# Altium integrated library HyTechDevices.Library.IntLib: 384 symbols (part 4 of 4)
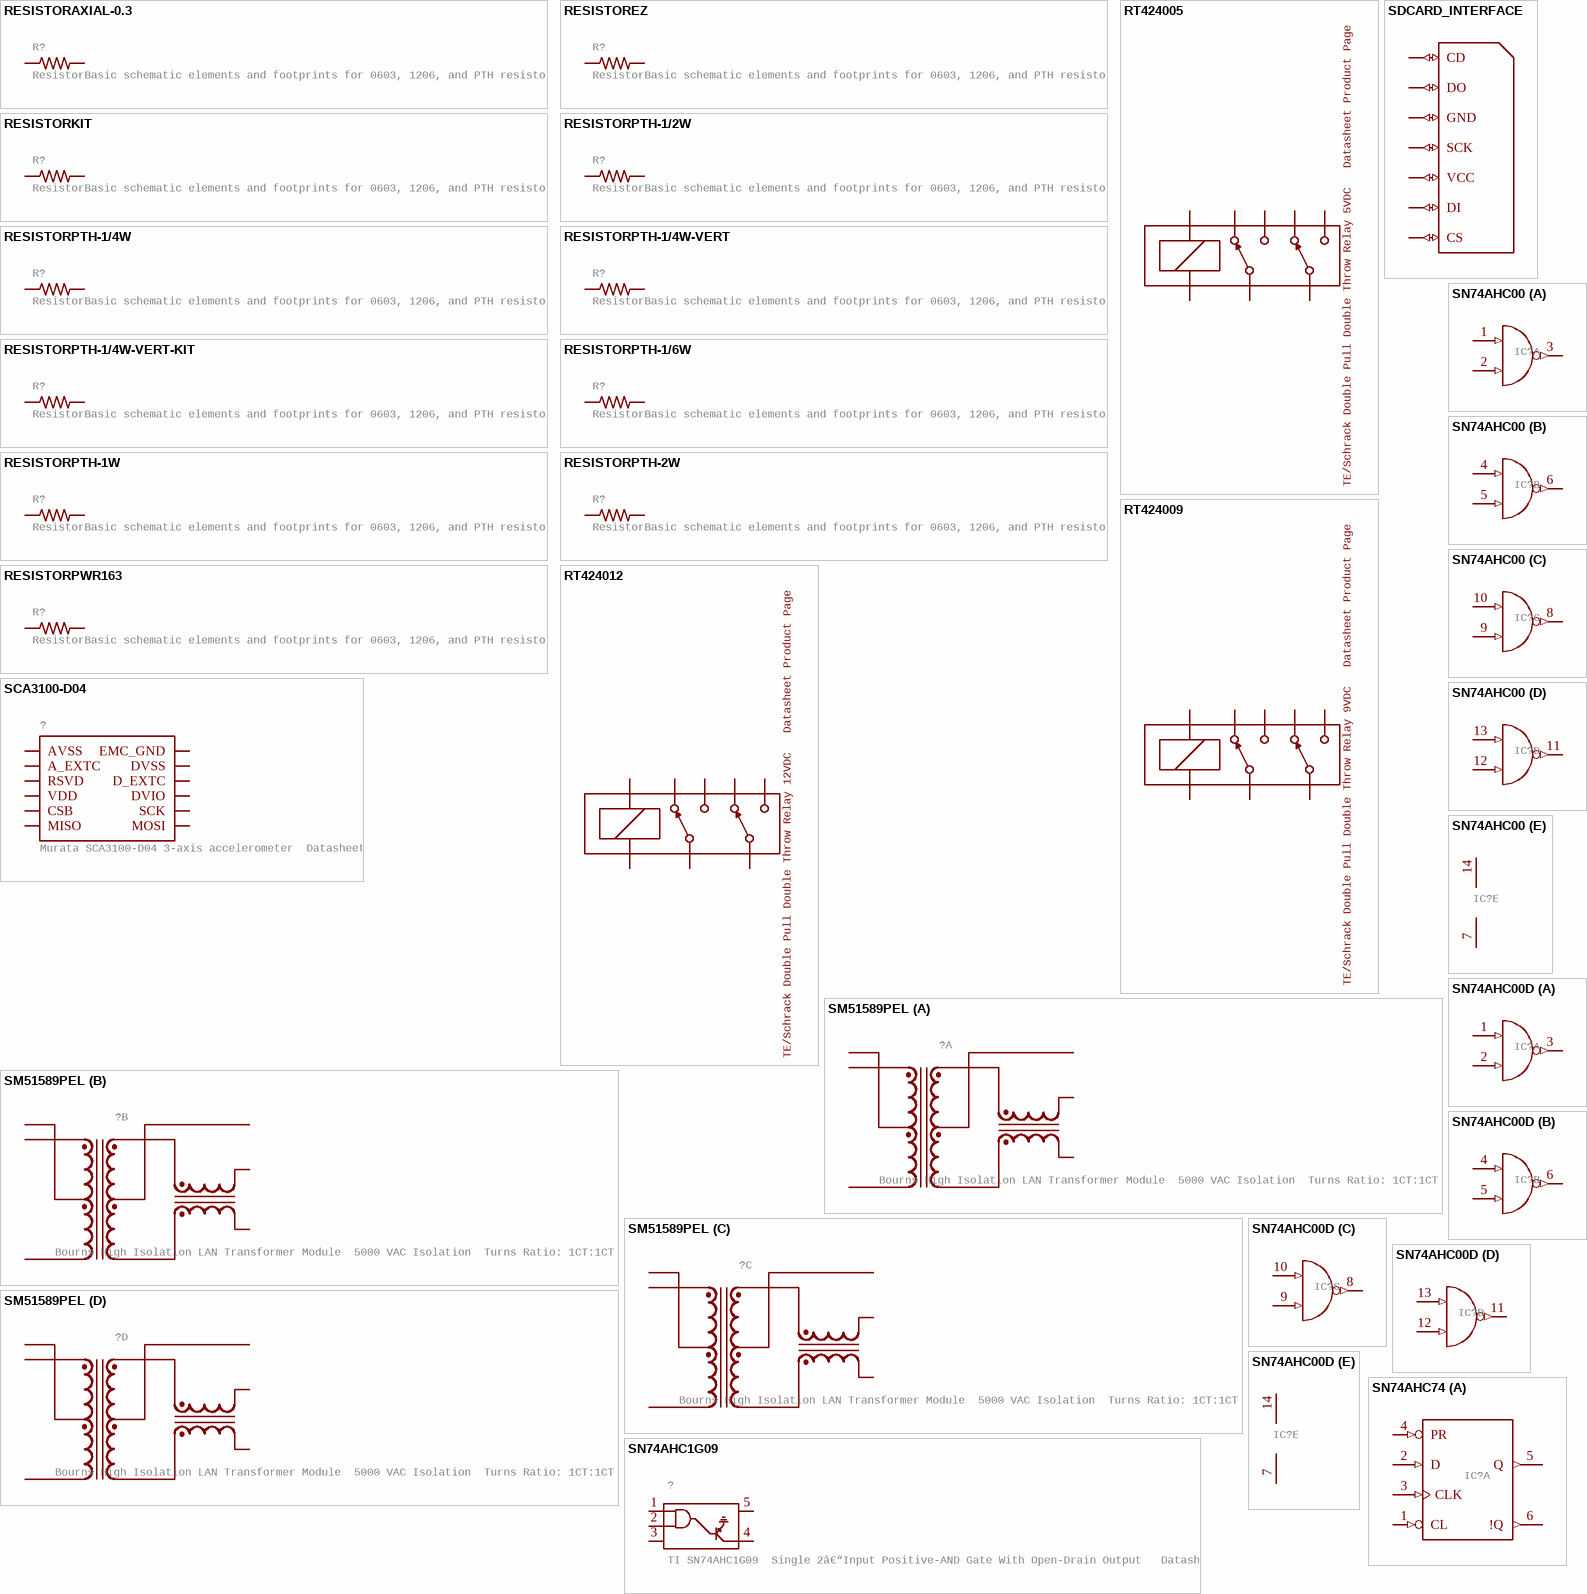
[diagram p24: symbols RESISTORAXIAL-0.3 to SN74AHC74]

## RESISTORPTH-2W
designator R?, comment ResistorBasic schematic elements and footprints for 0603, 1206, and PTH resistors.
GateName_1: G$1; DeviceName: PTH-2W; SymbolName_1: RESISTOR; LibraryName: HyTechDevices; DeviceSetName: RESISTOR; Package: AXIAL-0.8
footprint AXIAL-0.8
pins: P$1 1, P$2 2

## RESISTORPWR163
designator R?, comment ResistorBasic schematic elements and footprints for 0603, 1206, and PTH resistors.
GateName_1: G$1; DeviceName: PWR163; SymbolName_1: RESISTOR; LibraryName: HyTechDevices; DeviceSetName: RESISTOR; Package: PWR163
footprint PWR163
pins: 1, 2

## RT424005
designator ?, comment TE/Schrack Double Pull Double Throw Relay 5VDC   Datasheet Product Page
GateName_1: G$1; SymbolName_1: RELAY_DPDT; DeviceSetName: RT424005; LibraryName: HyTechDevices; Package: RELAY_DPDT
footprint RELAY_DPDT
pins: 2 (io), 3 (io), 4 (io), 5 (io), 6 (io), 7 (io), COIL+ (io), COIL- (io)

## RT424009
designator ?, comment TE/Schrack Double Pull Double Throw Relay 9VDC   Datasheet Product Page
GateName_1: G$1; SymbolName_1: RELAY_DPDT; DeviceSetName: RT424009; LibraryName: HyTechDevices; Package: RELAY_DPDT
footprint RELAY_DPDT
pins: 2 (io), 3 (io), 4 (io), 5 (io), 6 (io), 7 (io), COIL+ (io), COIL- (io)

## RT424012
designator ?, comment TE/Schrack Double Pull Double Throw Relay 12VDC   Datasheet Product Page
GateName_1: G$1; SymbolName_1: RELAY_DPDT; DeviceSetName: RT424012; LibraryName: HyTechDevices; Package: RELAY_DPDT
footprint RELAY_DPDT
pins: 2 (io), 3 (io), 4 (io), 5 (io), 6 (io), 7 (io), COIL+ (io), COIL- (io)

## SCA3100-D04
designator ?, comment Murata SCA3100-D04 3-axis accelerometer  Datasheet
GateName_1: G$1; SymbolName_1: SCA3100-D04; LibraryName: HyTechDevices; DeviceSetName: SCA3100-D04; Package: SCA3100-D04
footprint SCA3100-D04
pins: A_EXTC (io), AVSS (io), CSB (io), D_EXTC (io), DVIO (io), DVSS (io), EMC_GND (io), MISO (io), MOSI (io), RESERVED RSVD (io), SCK (io), VDD (io)

## SDCARD_INTERFACE
designator ?
GateName_1: G$1; SymbolName_1: SDCARD_INTERFACE; LibraryName: HyTechDevices; DeviceSetName: SDCARD_INTERFACE; Package: SDCARD_INTERFACE
footprint SDCARD_INTERFACE
pins: CD (io), CS (io), DI (io), DO (io), GND (io), SCK (io), VCC (io)

## SM51589PEL
designator ?, comment Bourns High Isolation LAN Transformer Module  5000 VAC Isolation  Turns Ratio: 1CT:1CT  Inductance: 350 uH  Leakage Inductance: 0.5 uH  Datasheet
GateName_1: G$1; GateName_2: G$2; GateName_3: G$3; GateName_4: G$4; DeviceSetName: SM51589PEL; SymbolName_1: TRANSFORMER; SymbolName_2: TRANSFORMER; SymbolName_3: TRANSFORMER; SymbolName_4: TRANSFORMER; LibraryName: HyTechDevices; Package: SM51589PEL
footprint SM51589PEL
part A pins: 1 MCT, 2 MX+, 3 MX-, 22 TD-, 23 TD+, 24 TCT
part B pins: 4 MCT, 5 MX+, 6 MX-, 19 TD-, 20 TD+, 21 TCT
part C pins: 7 MCT, 8 MX+, 9 MX-, 16 TD-, 17 TD+, 18 TCT
part D pins: 10 MCT, 11 MX+, 12 MX-, 13 TD-, 14 TD+, 15 TCT

## SN74AHC00
designator IC?, comment TI SN74AHC00 Quadruple 2-input NAND  (value not drawn)
GateName_1: A; SymbolName_1: NAND_2; GateName_2: B; GateName_3: C; GateName_4: D; GateName_5: P; SymbolName_5: PWRN; SymbolName_2: NAND_2; SymbolName_3: NAND_2; SymbolName_4: NAND_2; LibraryName: HyTechDevices; DeviceSetName: SN74AHC00; Package: DIL14
footprint DIL14
part A pins: 1 I0 (in), 2 I1 (in), 3 O (out)
part B pins: 4 I0 (in), 5 I1 (in), 6 O (out)
part C pins: 8 O (out), 9 I1 (in), 10 I0 (in)
part D pins: 11 O (out), 12 I1 (in), 13 I0 (in)
part E pins: 7 GND (power), 14 VCC (power)

## SN74AHC00D
designator IC?, comment TI SN74AHC00 Quadruple 2-input NAND  (value not drawn)
GateName_1: A; SymbolName_1: NAND_2; GateName_2: B; GateName_3: C; GateName_4: D; GateName_5: P; SymbolName_5: PWRN; SymbolName_2: NAND_2; SymbolName_3: NAND_2; SymbolName_4: NAND_2; DeviceName: D; LibraryName: HyTechDevices; DeviceSetName: SN74AHC00; Package: SOIC-14
footprint SOIC-14
part A pins: 1 I0 (in), 2 I1 (in), 3 O (out)
part B pins: 4 I0 (in), 5 I1 (in), 6 O (out)
part C pins: 8 O (out), 9 I1 (in), 10 I0 (in)
part D pins: 11 O (out), 12 I1 (in), 13 I0 (in)
part E pins: 7 GND (power), 14 VCC (power)

## SN74AHC1G09
designator ?, comment TI SN74AHC1G09  Single 2â€“Input Positive-AND Gate With Open-Drain Output   Datasheet
GateName_1: G$1; SymbolName_1: SN74AHC1G09; LibraryName: HyTechDevices; DeviceSetName: SN74AHC1G09; Package: SOT-23-5
footprint SOT-23-5
pins: 1, 2, 3, 4, 5

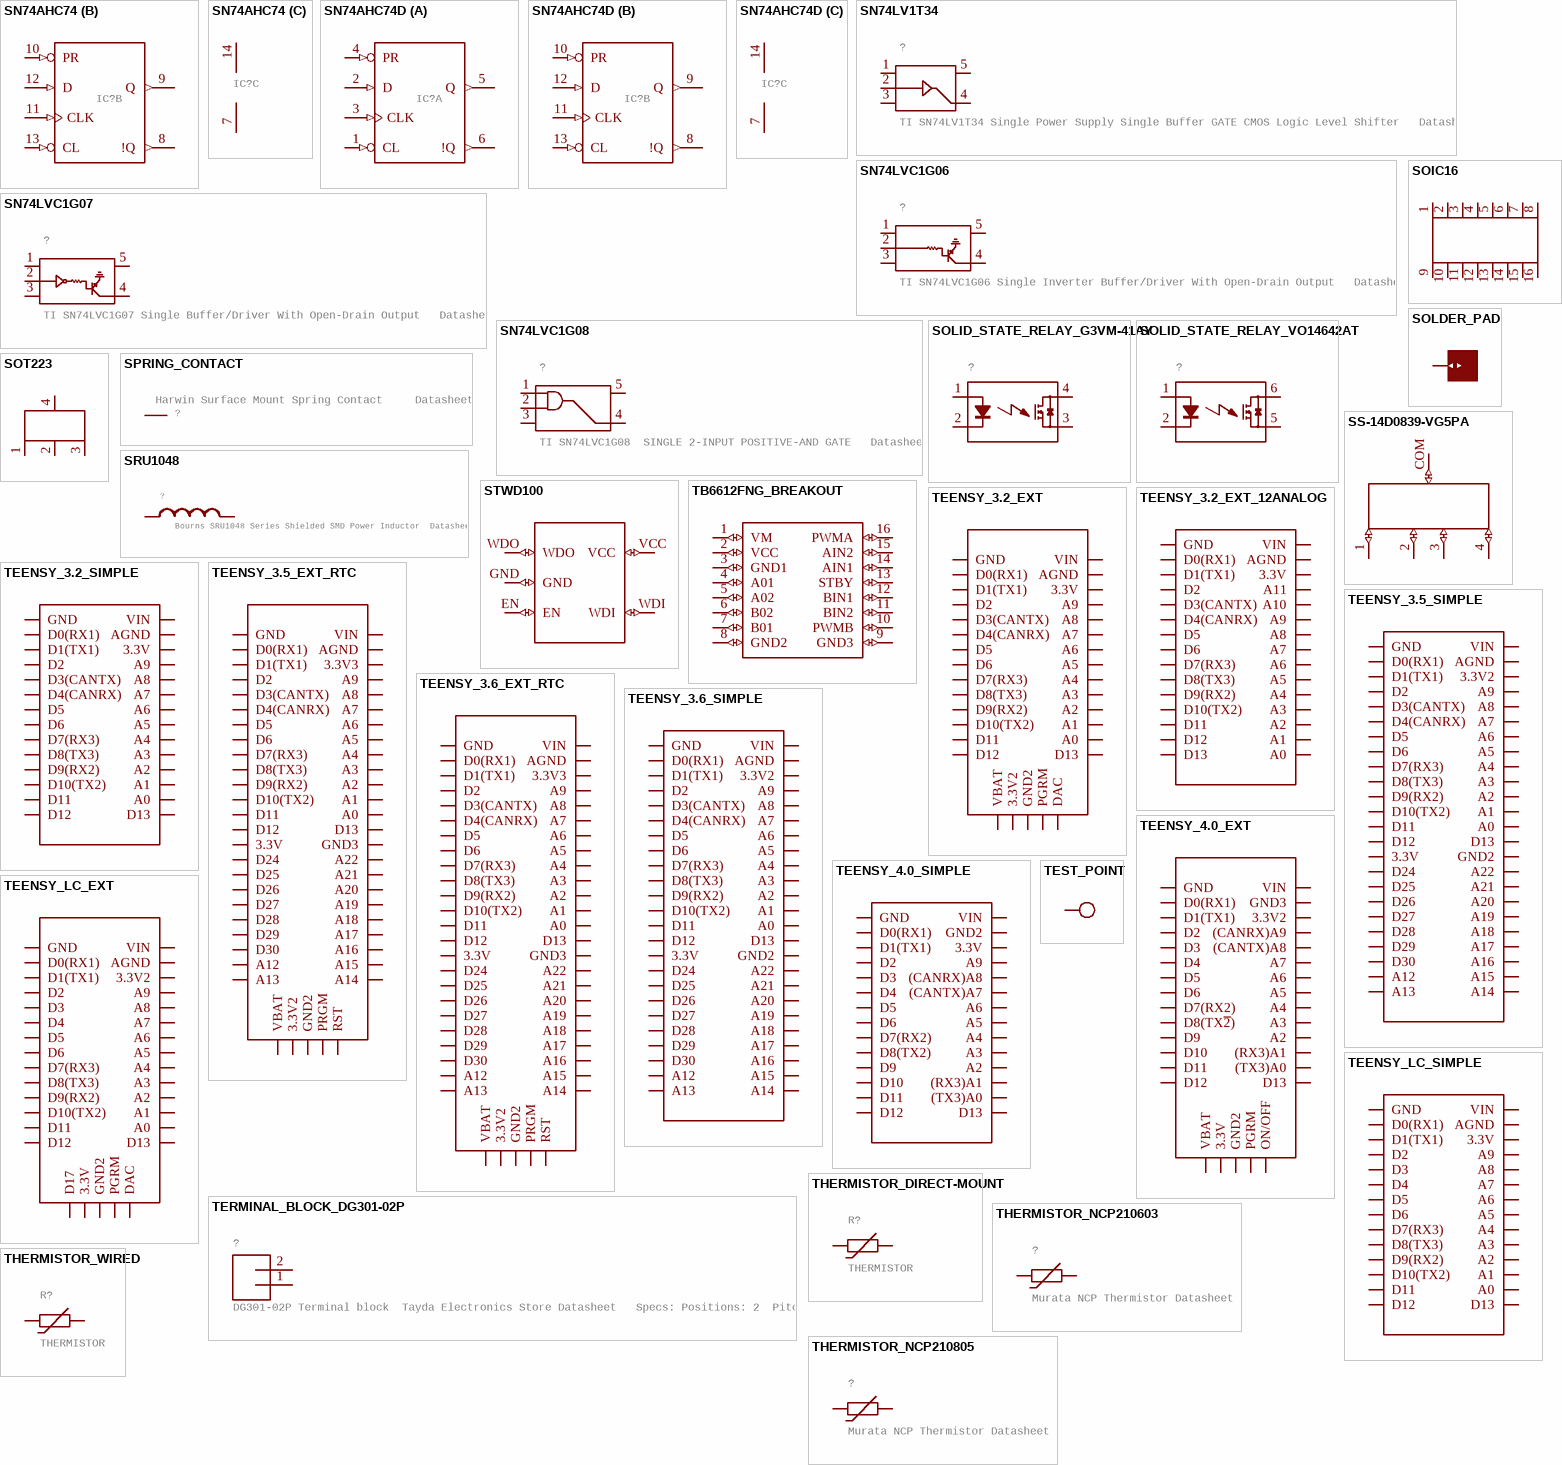
[diagram p20: symbols SN74AHC74 to THERMISTOR_WIRED]

## SN74AHC74
designator IC?, comment TI SN74AHC74 Dual positive edge triggered D-type FLIP FLOP  (value not drawn)
GateName_1: A; SymbolName_1: D_FLIP-FLOP; GateName_2: B; GateName_3: P; SymbolName_3: PWRN; SymbolName_2: D_FLIP-FLOP; LibraryName: HyTechDevices; DeviceSetName: SN74AHC74; Package: DIL14
footprint DIL14
part A pins: 1 CL (in), 2 D (in), 3 CLK (in), 4 PR (in), 5 Q (out), 6 !Q (out)
part B pins: 8 !Q (out), 9 Q (out), 10 PR (in), 11 CLK (in), 12 D (in), 13 CL (in)
part C pins: 7 GND (power), 14 VCC (power)

## SN74AHC74D
designator IC?, comment TI SN74AHC74 Dual positive edge triggered D-type FLIP FLOP  (value not drawn)
GateName_1: A; SymbolName_1: D_FLIP-FLOP; GateName_2: B; GateName_3: P; SymbolName_3: PWRN; DeviceName: D; SymbolName_2: D_FLIP-FLOP; LibraryName: HyTechDevices; DeviceSetName: SN74AHC74; Package: SOIC-14
footprint SOIC-14
part A pins: 1 CL (in), 2 D (in), 3 CLK (in), 4 PR (in), 5 Q (out), 6 !Q (out)
part B pins: 8 !Q (out), 9 Q (out), 10 PR (in), 11 CLK (in), 12 D (in), 13 CL (in)
part C pins: 7 GND (power), 14 VCC (power)

## SN74LV1T34
designator ?, comment TI SN74LV1T34 Single Power Supply Single Buffer GATE CMOS Logic Level Shifter   Datasheet
GateName_1: G$1; SymbolName_1: SN74LV1T34; LibraryName: HyTechDevices; DeviceSetName: SN74LV1T34; Package: SOT-23-5
footprint SOT-23-5
pins: 1, 2, 3, 4, 5

## SN74LVC1G06
designator ?, comment TI SN74LVC1G06 Single Inverter Buffer/Driver With Open-Drain Output   Datasheet
GateName_1: G$1; SymbolName_1: SN74LVC1G06; LibraryName: HyTechDevices; DeviceSetName: SN74LVC1G06; Package: SOT-23-5
footprint SOT-23-5
pins: 1, 2, 3, 4, 5

## SN74LVC1G07
designator ?, comment TI SN74LVC1G07 Single Buffer/Driver With Open-Drain Output   Datasheet
GateName_1: G$1; SymbolName_1: SN74LVC1G07; LibraryName: HyTechDevices; DeviceSetName: SN74LVC1G07; Package: SOT-23-5
footprint SOT-23-5
pins: 1, 2, 3, 4, 5

## SN74LVC1G08
designator ?, comment TI SN74LVC1G08  SINGLE 2-INPUT POSITIVE-AND GATE   Datasheet
GateName_1: G$1; SymbolName_1: SN74LVC1G08; LibraryName: HyTechDevices; DeviceSetName: SN74LVC1G08; Package: SOT-23-5
footprint SOT-23-5
pins: 1, 2, 3, 4, 5

## SOIC16
designator ?
GateName_1: G$1; SymbolName_1: SOIC16; LibraryName: HyTechDevices; DeviceSetName: SOIC16; Package: SOIC-16
footprint SOIC-16
pins: 1 P$1 (io), 2 P$2 (io), 3 P$3 (io), 4 P$4 (io), 5 P$5 (io), 6 P$6 (io), 7 P$7 (io), 8 P$8 (io), 9 P$9 (io), 10 P$10 (io), 11 P$11 (io), 12 P$12 (io), 13 P$13 (io), 14 P$14 (io), 15 P$15 (io), 16 P$16 (io)

## SOLDER_PAD
designator ?, comment Solder pad used to attach wires directly to PCB  (value not drawn)
GateName_1: G$1; SymbolName_1: SOLDER_PAD; LibraryName: HyTechDevices; DeviceSetName: SOLDER_PAD; Package: SOLDER_PAD_XSMALL
footprint SOLDER_PAD_XSMALL
pins: P$1 (io)

## SOLID_STATE_RELAY_G3VM-41AY
designator ?
GateName_1: G$1; SymbolName_1: PHOTOMOS-DC; DeviceName: _G3VM-41AY; DeviceSetName: SOLID_STATE_RELAY; LibraryName: HyTechDevices; Package: DIL04
footprint DIL04
pins: 1 LED+, 2 LED-, 3 IO2, 4 IO1

## SOLID_STATE_RELAY_VO14642AT
designator ?
GateName_1: G$1; SymbolName_1: PHOTOMOS-DC; DeviceName: _VO14642AT; DeviceSetName: SOLID_STATE_RELAY; LibraryName: HyTechDevices; Package: DIL06
footprint DIL06
pins: 1 LED+, 2 LED-, 5 IO2, 6 IO1

## SOT223
designator ?
GateName_1: G$1; SymbolName_1: SOT223; LibraryName: HyTechDevices; DeviceSetName: SOT223; Package: SOT223
footprint SOT223
pins: 1 (io), 2 (io), 3 (io), 4 (io)

## SPRING_CONTACT
designator ?, comment Harwin Surface Mount Spring Contact     Datasheet
GateName_1: G$1; SymbolName_1: MV; DeviceSetName: SPRING_CONTACT; LibraryName: HyTechDevices; Package: S1791-42R
footprint S1791-42R
pins: P$1 S

## SRU1048
designator ?, comment Bourns SRU1048 Series Shielded SMD Power Inductor  Datasheet
GateName_1: G$1; SymbolName_1: INDUCTOR; LibraryName: HyTechDevices; DeviceSetName: SRU1048; Package: SRU1048
footprint SRU1048
pins: 1 P$1 (io), 2 P$2 (io)

## SS-14D0839-VG5PA
designator ?
GateName_1: G$1; SymbolName_1: SS-14D0839-VG5PA; LibraryName: HyTechDevices; DeviceSetName: SS-14D0839-VG5PA; Package: SS-14D0839-VG5PA
footprint SS-14D0839-VG5PA
pins: 1 (io), 2 (io), 3 (io), 4 (io), COM (io)

## STWD100
designator ?, comment STWD100 Watchdog timer  (value not drawn)
GateName_1: G$1; SymbolName_1: STWD100; LibraryName: HyTechDevices; DeviceSetName: STWD100; Package: SOT23-5
footprint SOT23-5
pins: EN (io), GND (io), VCC (io), WDI (io), WDO (io)

## TB6612FNG_BREAKOUT
designator ?
GateName_1: G$1; SymbolName_1: TB6612FNG_BREAKOUT; LibraryName: HyTechDevices; DeviceSetName: TB6612FNG_BREAKOUT; Package: TB6612FNG_BREAKOUT
footprint TB6612FNG_BREAKOUT
pins: 1 VM (io), 2 VCC (io), 3 GND1 (io), 4 A01 (io), 5 A02 (io), 6 B02 (io), 7 B01 (io), 8 GND2 (io), 9 GND3 (io), 10 PWMB (io), 11 BIN2 (io), 12 BIN1 (io), 13 STBY (io), 14 AIN1 (io), 15 AIN2 (io), 16 PWMA (io)

## TEENSY_3.2_EXT
designator ?, comment Extended version of the Teensy 3.2 board that only uses the 2 main rows of pins, plus the perpendicular row with VBat.  (value not drawn)
GateName_1: G$1; SymbolName_1: TEENSY_3.2_EXT; LibraryName: HyTechDevices; DeviceSetName: TEENSY_3.2_EXT; Package: TEENSY_3.2_EXT
footprint TEENSY_3.2_EXT
pins: 3.3V (io), 3.3V2 (io), A0 (io), A1 (io), A2 (io), A3 (io), A4 (io), A5 (io), A6 (io), A7 (io), A8 (io), A9 (io), AGND (io), D0(RX1) (io), D1(TX1) (io), D2 (io), D3(CANTX) (io), D4(CANRX) (io), D5 (io), D6 (io), D7(RX3) (io), D8(TX3) (io), D9(RX2) (io), D10(TX2) (io), D11 (io), D12 (io), D13 (io), DAC (io), GND (io), GND2 (io), PGRM (io), VBAT (io), VIN (io)

## TEENSY_3.2_EXT_12ANALOG
designator ?, comment Simple version of the Teensy 3.2 board that only uses the 2 main rows of pins, with 12 Analog pins and no perpendicular row with VBat or inner pins.  (value not drawn)
GateName_1: G$1; SymbolName_1: TEENSY_3.2_EXT_12ANALOG; LibraryName: HyTechDevices; DeviceSetName: TEENSY_3.2_EXT_12ANALOG; Package: TEENSY_3.2_EXT_12ANALOG
footprint TEENSY_3.2_EXT_12ANALOG
pins: 3.3V (io), A0 (io), A1 (io), A2 (io), A3 (io), A4 (io), A5 (io), A6 (io), A7 (io), A8 (io), A9 (io), A10 (io), A11 (io), AGND (io), D0(RX1) (io), D1(TX1) (io), D2 (io), D3(CANTX) (io), D4(CANRX) (io), D5 (io), D6 (io), D7(RX3) (io), D8(TX3) (io), D9(RX2) (io), D10(TX2) (io), D11 (io), D12 (io), D13 (io), GND (io), VIN (io)

## TEENSY_3.2_SIMPLE
designator ?, comment Simple version of the Teensy 3.2 board that only uses the 2 main rows of pins, with no perpendicular row with VBat or inner pins.  (value not drawn)
GateName_1: G$1; SymbolName_1: TEENSY_3.2_SIMPLE; LibraryName: HyTechDevices; DeviceSetName: TEENSY_3.2_SIMPLE; Package: TEENSY_3.2_SIMPLE
footprint TEENSY_3.2_SIMPLE
pins: 3.3V (io), A0 (io), A1 (io), A2 (io), A3 (io), A4 (io), A5 (io), A6 (io), A7 (io), A8 (io), A9 (io), AGND (io), D0(RX1) (io), D1(TX1) (io), D2 (io), D3(CANTX) (io), D4(CANRX) (io), D5 (io), D6 (io), D7(RX3) (io), D8(TX3) (io), D9(RX2) (io), D10(TX2) (io), D11 (io), D12 (io), D13 (io), GND (io), VIN (io)

## TEENSY_3.5_EXT_RTC
designator ?, comment Extended version of the Teensy 3.5 board that only uses the 2 main rows of pins, plus the perpendicular row with VBat.  (value not drawn)
GateName_1: G$1; SymbolName_1: TEENSY_3.5_EXT_RTC; LibraryName: HyTechDevices; DeviceSetName: TEENSY_3.5_EXT_RTC; Package: TEENSY_3.5_EXT_RTC
footprint TEENSY_3.5_EXT_RTC
pins: 3.3V (io), 3.3V2 (io), 3.3V3 (io), A0 (io), A1 (io), A2 (io), A3 (io), A4 (io), A5 (io), A6 (io), A7 (io), A8 (io), A9 (io), A12 (io), A13 (io), A14 (io), A15 (io), A16 (io), A17 (io), A18 (io), A19 (io), A20 (io), A21 (io), A22 (io), AGND (io), D0(RX1) (io), D1(TX1) (io), D2 (io), D3(CANTX) (io), D4(CANRX) (io), D5 (io), D6 (io), D7(RX3) (io), D8(TX3) (io), D9(RX2) (io), D10(TX2) (io), D11 (io), D12 (io), D13 (io), D24 (io), D25 (io), D26 (io), D27 (io), D28 (io), D29 (io), D30 (io), GND (io), GND2 (io), GND3 (io), PRGM (io), RST (io), VBAT (io), VIN (io)

## TEENSY_3.5_SIMPLE
designator ?, comment Simple version of the Teensy 3.5 board that only uses the 2 main rows of pins, with no perpendicular row with VBat or inner pins.  (value not drawn)
GateName_1: G$1; SymbolName_1: TEENSY_3.5_SIMPLE; LibraryName: HyTechDevices; DeviceSetName: TEENSY_3.5_SIMPLE; Package: TEENSY_3.5_SIMPLE
footprint TEENSY_3.5_SIMPLE
pins: 3.3V (io), 3.3V2 (io), A0 (io), A1 (io), A2 (io), A3 (io), A4 (io), A5 (io), A6 (io), A7 (io), A8 (io), A9 (io), A12 (io), A13 (io), A14 (io), A15 (io), A16 (io), A17 (io), A18 (io), A19 (io), A20 (io), A21 (io), A22 (io), AGND (io), D0(RX1) (io), D1(TX1) (io), D2 (io), D3(CANTX) (io), D4(CANRX) (io), D5 (io), D6 (io), D7(RX3) (io), D8(TX3) (io), D9(RX2) (io), D10(TX2) (io), D11 (io), D12 (io), D13 (io), D24 (io), D25 (io), D26 (io), D27 (io), D28 (io), D29 (io), D30 (io), GND (io), GND2 (io), VIN (io)

## TEENSY_3.6_EXT_RTC
designator ?, comment Extended version of the Teensy 3.6 board that only uses the 2 main rows of pins, plus the perpendicular row with VBat.  (value not drawn)
GateName_1: G$1; SymbolName_1: TEENSY_3.6_EXT_RTC; LibraryName: HyTechDevices; DeviceSetName: TEENSY_3.6_EXT_RTC; Package: TEENSY_3.6_EXT_RTC
footprint TEENSY_3.6_EXT_RTC
pins: 3.3V (io), 3.3V2 (io), 3.3V3 (io), A0 (io), A1 (io), A2 (io), A3 (io), A4 (io), A5 (io), A6 (io), A7 (io), A8 (io), A9 (io), A12 (io), A13 (io), A14 (io), A15 (io), A16 (io), A17 (io), A18 (io), A19 (io), A20 (io), A21 (io), A22 (io), AGND (io), D0(RX1) (io), D1(TX1) (io), D2 (io), D3(CANTX) (io), D4(CANRX) (io), D5 (io), D6 (io), D7(RX3) (io), D8(TX3) (io), D9(RX2) (io), D10(TX2) (io), D11 (io), D12 (io), D13 (io), D24 (io), D25 (io), D26 (io), D27 (io), D28 (io), D29 (io), D30 (io), GND (io), GND2 (io), GND3 (io), PRGM (io), RST (io), VBAT (io), VIN (io)

## TEENSY_3.6_SIMPLE
designator ?, comment Simple version of the Teensy 3.6 board that only uses the 2 main rows of pins, with no perpendicular row with VBat or inner pins.  (value not drawn)
GateName_1: G$1; SymbolName_1: TEENSY_3.6_SIMPLE; LibraryName: HyTechDevices; DeviceSetName: TEENSY_3.6_SIMPLE; Package: TEENSY_3.6_SIMPLE
footprint TEENSY_3.6_SIMPLE
pins: 3.3V (io), 3.3V2 (io), A0 (io), A1 (io), A2 (io), A3 (io), A4 (io), A5 (io), A6 (io), A7 (io), A8 (io), A9 (io), A12 (io), A13 (io), A14 (io), A15 (io), A16 (io), A17 (io), A18 (io), A19 (io), A20 (io), A21 (io), A22 (io), AGND (io), D0(RX1) (io), D1(TX1) (io), D2 (io), D3(CANTX) (io), D4(CANRX) (io), D5 (io), D6 (io), D7(RX3) (io), D8(TX3) (io), D9(RX2) (io), D10(TX2) (io), D11 (io), D12 (io), D13 (io), D24 (io), D25 (io), D26 (io), D27 (io), D28 (io), D29 (io), D30 (io), GND (io), GND2 (io), VIN (io)

## TEENSY_4.0_EXT
designator ?, comment Extended version of the Teensy 4.0 board that only uses the 2 main rows of pins, plus the perpendicular row with VBat.  (value not drawn)
GateName_1: G$1; SymbolName_1: TEENSY_4.0_EXT; LibraryName: HyTechDevices; DeviceSetName: TEENSY_4.0_EXT; Package: TEENSY_4.0_EXT
footprint TEENSY_4.0_EXT
pins: 3.3V (io), 3.3V2 (io), (CANRX)A9 (io), (CANTX)A8 (io), (RX3)A1 (io), (TX3)A0 (io), A2 (io), A3 (io), A4 (io), A5 (io), A6 (io), A7 (io), D0(RX1) (io), D1(TX1) (io), D2 (io), D3 (io), D4 (io), D5 (io), D6 (io), D7(RX2) (io), D8(TX2) D8(TX~{2}) (io), D9 (io), D10 (io), D11 (io), D12 (io), D13 (io), GND (io), GND2 (io), GND3 (io), ON/OFF (io), PGRM (io), VBAT (io), VIN (io)

## TEENSY_4.0_SIMPLE
designator ?, comment Simple version of the Teensy 4.0 board that only uses the 2 main rows of pins, with no perpendicular row with VBat.  (value not drawn)
GateName_1: G$1; SymbolName_1: TEENSY_4.0_SIMPLE; LibraryName: HyTechDevices; DeviceSetName: TEENSY_4.0_SIMPLE; Package: TEENSY_4.0_SIMPLE
footprint TEENSY_4.0_SIMPLE
pins: 3.3V (io), (CANRX)A8 (io), (CANTX)A7 (io), (RX3)A1 (io), (TX3)A0 (io), A2 (io), A3 (io), A4 (io), A5 (io), A6 (io), A9 (io), D0(RX1) (io), D1(TX1) (io), D2 (io), D3 (io), D4 (io), D5 (io), D6 (io), D7(RX2) (io), D8(TX2) (io), D9 (io), D10 (io), D11 (io), D12 (io), D13 (io), GND (io), GND2 (io), VIN (io)

## TEENSY_LC_EXT
designator ?, comment Extended version of the Teensy LC board that only uses the 2 main rows of pins, plus the perpendicular row with VBat.  (value not drawn)
GateName_1: G$1; SymbolName_1: TEENSY_LC_EXT; LibraryName: HyTechDevices; DeviceSetName: TEENSY_LC_EXT; Package: TEENSY_LC_EXT
footprint TEENSY_LC_EXT
pins: 3.3V (io), 3.3V2 (io), A0 (io), A1 (io), A2 (io), A3 (io), A4 (io), A5 (io), A6 (io), A7 (io), A8 (io), A9 (io), AGND (io), D0(RX1) (io), D1(TX1) (io), D2 (io), D3 (io), D4 (io), D5 (io), D6 (io), D7(RX3) (io), D8(TX3) (io), D9(RX2) (io), D10(TX2) (io), D11 (io), D12 (io), D13 (io), D17 (io), DAC (io), GND (io), GND2 (io), PGRM (io), VIN (io)

## TEENSY_LC_SIMPLE
designator ?, comment Simple version of the Teensy LC board that only uses the 2 main rows of pins, with no perpendicular row with VBat or inner pins.  (value not drawn)
GateName_1: G$1; SymbolName_1: TEENSY_LC_SIMPLE; LibraryName: HyTechDevices; DeviceSetName: TEENSY_LC_SIMPLE; Package: TEENSY_LC_SIMPLE
footprint TEENSY_LC_SIMPLE
pins: 3.3V (io), A0 (io), A1 (io), A2 (io), A3 (io), A4 (io), A5 (io), A6 (io), A7 (io), A8 (io), A9 (io), AGND (io), D0(RX1) (io), D1(TX1) (io), D2 (io), D3 (io), D4 (io), D5 (io), D6 (io), D7(RX3) (io), D8(TX3) (io), D9(RX2) (io), D10(TX2) (io), D11 (io), D12 (io), D13 (io), GND (io), VIN (io)

## TERMINAL_BLOCK_DG301-02P
designator ?, comment DG301-02P Terminal block  Tayda Electronics Store Datasheet   Specs: Positions: 2  Pitch: 5.00mm  Wire: 12-24 AWG  Max Current: 15A  Max Voltage: 300V
GateName_1: G$1; SymbolName_1: M02; DeviceSetName: TERMINAL_BLOCK_DG301-02P; LibraryName: HyTechDevices; Package: DG301-02P
footprint DG301-02P
pins: 1, 2

## TEST_POINT
designator ?, comment Keystone Electronics Test Point 5005  (value not drawn)
GateName_1: G$1; SymbolName_1: TEST_POINT; LibraryName: HyTechDevices; DeviceSetName: TEST_POINT; Package: TEST_POINT
footprint TEST_POINT
pins: P$1 (io)

## THERMISTOR_DIRECT-MOUNT
designator R?, comment THERMISTOR
GateName_1: G$1; DeviceName: _DIRECT-MOUNT; SymbolName_1: THERMISTOR; LibraryName: HyTechDevices; DeviceSetName: THERMISTOR; Package: DO-35
footprint DO-35
pins: 1, 2

## THERMISTOR_NCP210603
designator ?, comment Murata NCP Thermistor Datasheet
GateName_1: G$1; DeviceName: 0603; DeviceSetName: THERMISTOR_NCP21; SymbolName_1: THERMISTOR; LibraryName: HyTechDevices; Package: 0603
footprint 0603
pins: 1, 2

## THERMISTOR_NCP210805
designator ?, comment Murata NCP Thermistor Datasheet
GateName_1: G$1; DeviceName: 0805; DeviceSetName: THERMISTOR_NCP21; SymbolName_1: THERMISTOR; LibraryName: HyTechDevices; Package: 0805
footprint 0805
pins: 1, 2

## THERMISTOR_WIRED
designator R?, comment THERMISTOR
GateName_1: G$1; DeviceName: _WIRED; SymbolName_1: THERMISTOR; LibraryName: HyTechDevices; DeviceSetName: THERMISTOR; Package: 1X02
footprint 1X02
pins: 1, 2

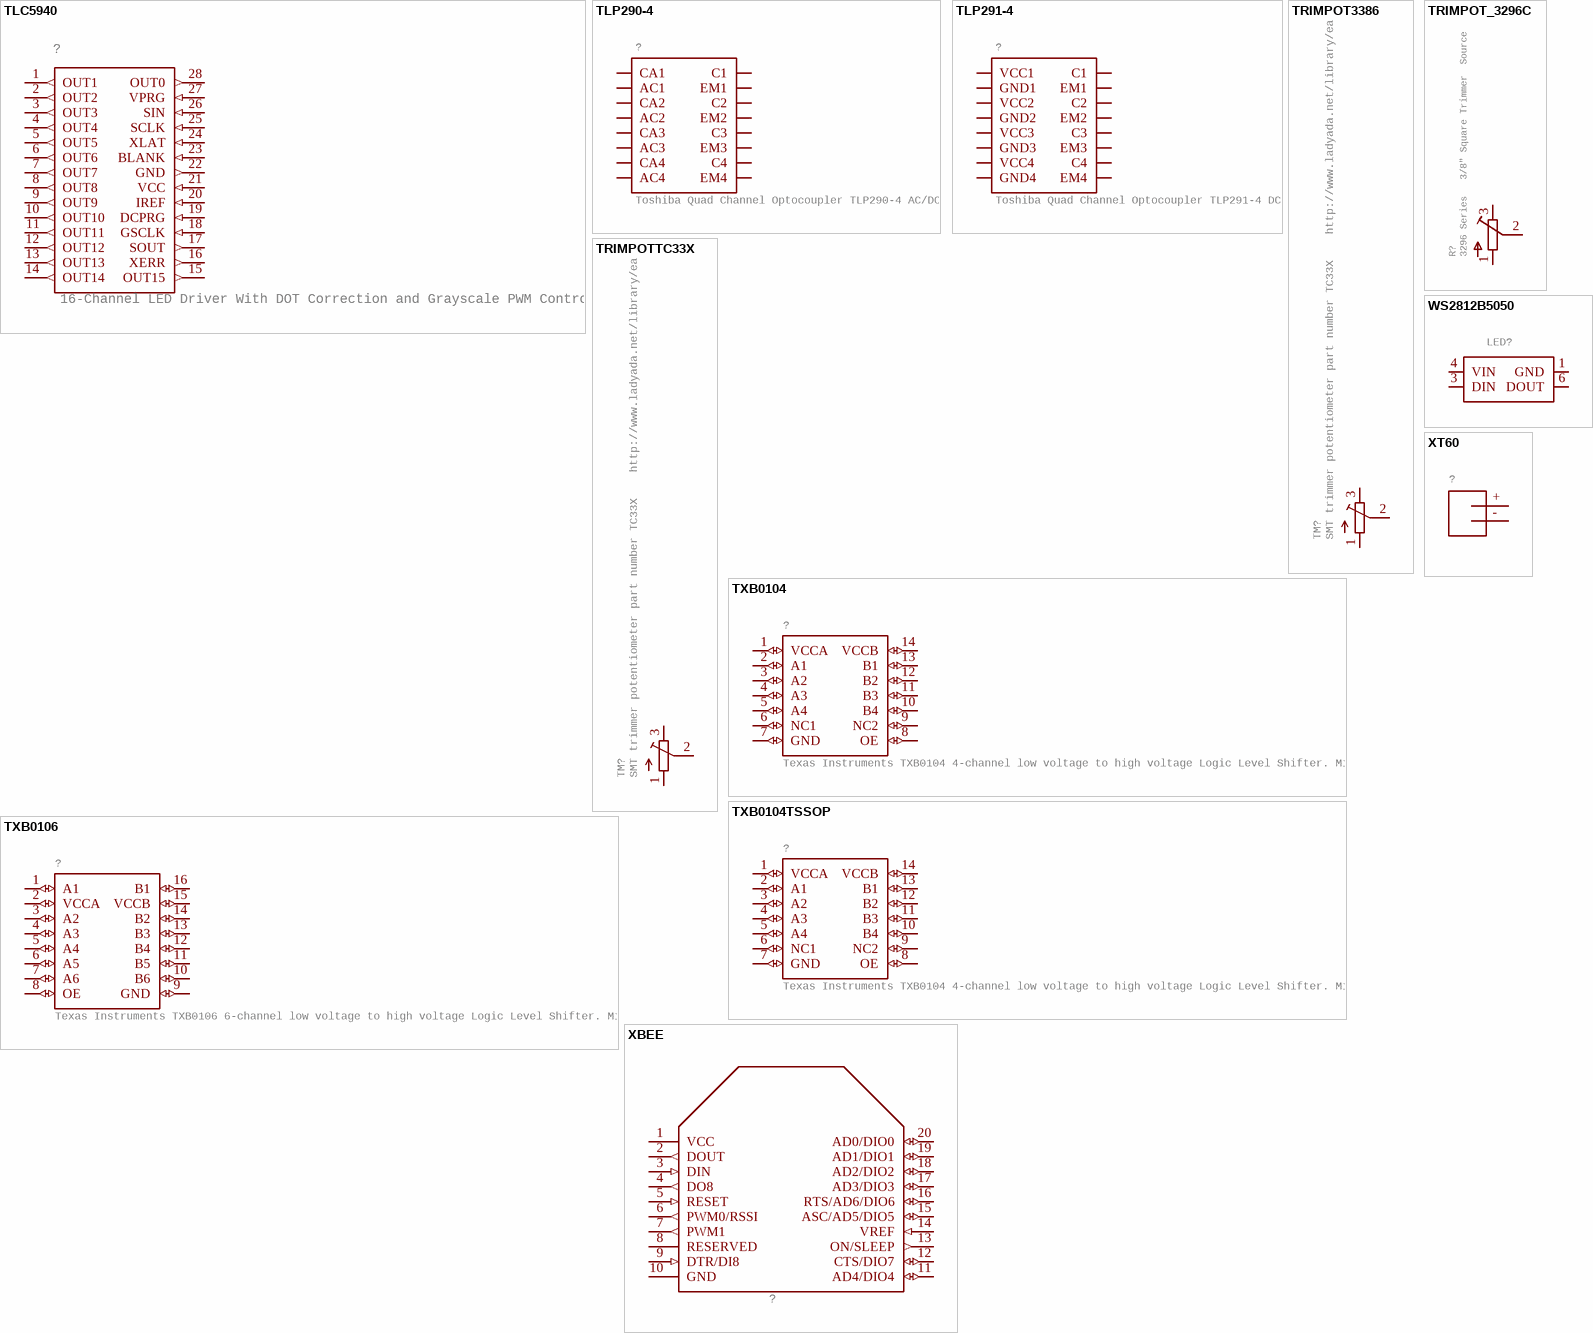
[diagram p21: symbols TLC5940 to XT60]

## TLC5940
designator ?, comment 16-Channel LED Driver With DOT Correction and Grayscale PWM Control
GateName_1: G$1; SymbolName_1: TLC5940; LibraryName: HyTechDevices; DeviceSetName: TLC5940; Package: DIL28-3
footprint DIL28-3
pins: 1 OUT1 (out), 2 OUT2 (out), 3 OUT3 (out), 4 OUT4 (out), 5 OUT5 (out), 6 OUT6 (out), 7 OUT7 (out), 8 OUT8 (out), 9 OUT9 (out), 10 OUT10 (out), 11 OUT11 (out), 12 OUT12 (out), 13 OUT13 (out), 14 OUT14 (out), 15 OUT15 (out), 16 XERR (out), 17 SOUT (out), 18 GSCLK (in), 19 DCPRG (in), 20 IREF (in), 21 VCC (in), 22 GND (out), 23 BLANK (in), 24 XLAT (in), 25 SCLK (in), 26 SIN (in), 27 VPRG (in), 28 OUT0 (out)

## TLP290-4
designator ?, comment Toshiba Quad Channel Optocoupler TLP290-4 AC/DC
GateName_1: G$1; SymbolName_1: TLP290-4; LibraryName: HyTechDevices; DeviceSetName: TLP290-4; Package: 11-11F1
footprint 11-11F1
pins: 1 CA1, 2 AC1, 3 CA2, 4 AC2, 5 CA3, 6 AC3, 7 CA4, 8 AC4, 9 EM4, 10 C4, 11 EM3, 12 C3, 13 EM2, 14 C2, 15 EM1, 16 C1

## TLP291-4
designator ?, comment Toshiba Quad Channel Optocoupler TLP291-4 DC
GateName_1: G$1; SymbolName_1: TLP291-4; LibraryName: HyTechDevices; DeviceSetName: TLP291-4; Package: 11-11F1
footprint 11-11F1
pins: 1 VCC1, 2 GND1, 3 VCC2, 4 GND2, 5 VCC3, 6 GND3, 7 VCC4, 8 GND4, 9 EM4, 10 C4, 11 EM3, 12 C3, 13 EM2, 14 C2, 15 EM1, 16 C1

## TRIMPOT3386
designator TM?, comment SMT trimmer potentiometer part number TC33X    http://www.ladyada.net/library/eagle
GateName_1: G$1; SymbolName_1: TRIMPOT; DeviceName: 3386; LibraryName: HyTechDevices; DeviceSetName: TRIMPOT; Package: TRIM-3386
footprint TRIM-3386
pins: 1 A, 2 S, 3 E

## TRIMPOT_3296C
designator R?, comment 3296 Series   3/8" Square Trimmer  Source
GateName_1: G$1; SymbolName_1: TPOT; DeviceName: C; DeviceSetName: TRIMPOT_3296; LibraryName: HyTechDevices; Package: TRIMPOT_3296
footprint TRIMPOT_3296
pins: 1, 2, 3

## TRIMPOTTC33X
designator TM?, comment SMT trimmer potentiometer part number TC33X    http://www.ladyada.net/library/eagle
GateName_1: G$1; SymbolName_1: TRIMPOT; DeviceName: TC33X; LibraryName: HyTechDevices; DeviceSetName: TRIMPOT; Package: TC33X
footprint TC33X
pins: 1 A, 2 S, 3 E

## TXB0104
designator ?, comment Texas Instruments TXB0104 4-channel low voltage to high voltage Logic Level Shifter. Minimum input voltage level 1.8V. Maximum output voltage level 5.5V.
GateName_1: G$1; SymbolName_1: TXB0104; LibraryName: HyTechDevices; DeviceSetName: TXB0104; Package: SOIC-14
footprint SOIC-14
pins: 1 VCCA (io), 2 A1 (io), 3 A2 (io), 4 A3 (io), 5 A4 (io), 6 NC1 (io), 7 GND (io), 8 OE (io), 9 NC2 (io), 10 B4 (io), 11 B3 (io), 12 B2 (io), 13 B1 (io), 14 VCCB (io)

## TXB0104TSSOP
designator ?, comment Texas Instruments TXB0104 4-channel low voltage to high voltage Logic Level Shifter. Minimum input voltage level 1.8V. Maximum output voltage level 5.5V.
GateName_1: G$1; DeviceName: TSSOP; SymbolName_1: TXB0104; LibraryName: HyTechDevices; DeviceSetName: TXB0104; Package: TSSOP-14
footprint TSSOP-14
pins: 1 VCCA (io), 2 A1 (io), 3 A2 (io), 4 A3 (io), 5 A4 (io), 6 NC1 (io), 7 GND (io), 8 OE (io), 9 NC2 (io), 10 B4 (io), 11 B3 (io), 12 B2 (io), 13 B1 (io), 14 VCCB (io)

## TXB0106
designator ?, comment Texas Instruments TXB0106 6-channel low voltage to high voltage Logic Level Shifter. Minimum input voltage level 1.8V. Maximum output voltage level 5.5V.
GateName_1: G$1; SymbolName_1: TXB0106; LibraryName: HyTechDevices; DeviceSetName: TXB0106; Package: TSSOP-16
footprint TSSOP-16
pins: 1 A1 (io), 2 VCCA (io), 3 A2 (io), 4 A3 (io), 5 A4 (io), 6 A5 (io), 7 A6 (io), 8 OE (io), 9 GND (io), 10 B6 (io), 11 B5 (io), 12 B4 (io), 13 B3 (io), 14 B2 (io), 15 VCCB (io), 16 B1 (io)

## WS2812B5050
designator LED?, comment 4 Pin RBG LED individually addressable.  Source: Adafruit  (value not drawn)
GateName_1: G$1; SymbolName_1: WS2812B; DeviceName: 5050; LibraryName: HyTechDevices; DeviceSetName: WS2812B; Package: RGBLED5050
footprint RGBLED5050
pins: 1 GND (io), 3 DIN (io), 4 VIN (io), 6 DOUT (io)

## XBEE
designator ?, comment Source: Adafruit  (value not drawn)
GateName_1: G$1; SymbolName_1: XBEE; LibraryName: HyTechDevices; DeviceSetName: XBEE; Package: XBEE
footprint XBEE
pins: 1 VCC (power), 2 DOUT (out), 3 DIN (in), 4 DO8 (out), 5 RESET (in), 6 PWM0/RSSI (out), 7 PWM1 (out), 8 RESERVED, 9 DTR/DI8 (in), 10 GND (power), 11 AD4/DIO4 (io), 12 CTS/DIO7 (io), 13 ON/SLEEP (out), 14 VREF (in), 15 ASC/AD5/DIO5 (io), 16 RTS/AD6/DIO6 (io), 17 AD3/DIO3 (io), 18 AD2/DIO2 (io), 19 AD1/DIO1 (io), 20 AD0/DIO0 (io)

## XT60
designator ?
GateName_1: G$1; SymbolName_1: M02; DeviceSetName: XT60; LibraryName: HyTechDevices; Package: XT60
footprint XT60
pins: + 2, - 1